# Altium integrated library National Semiconductor DAC.IntLib: 141 symbols (part 3 of 4)
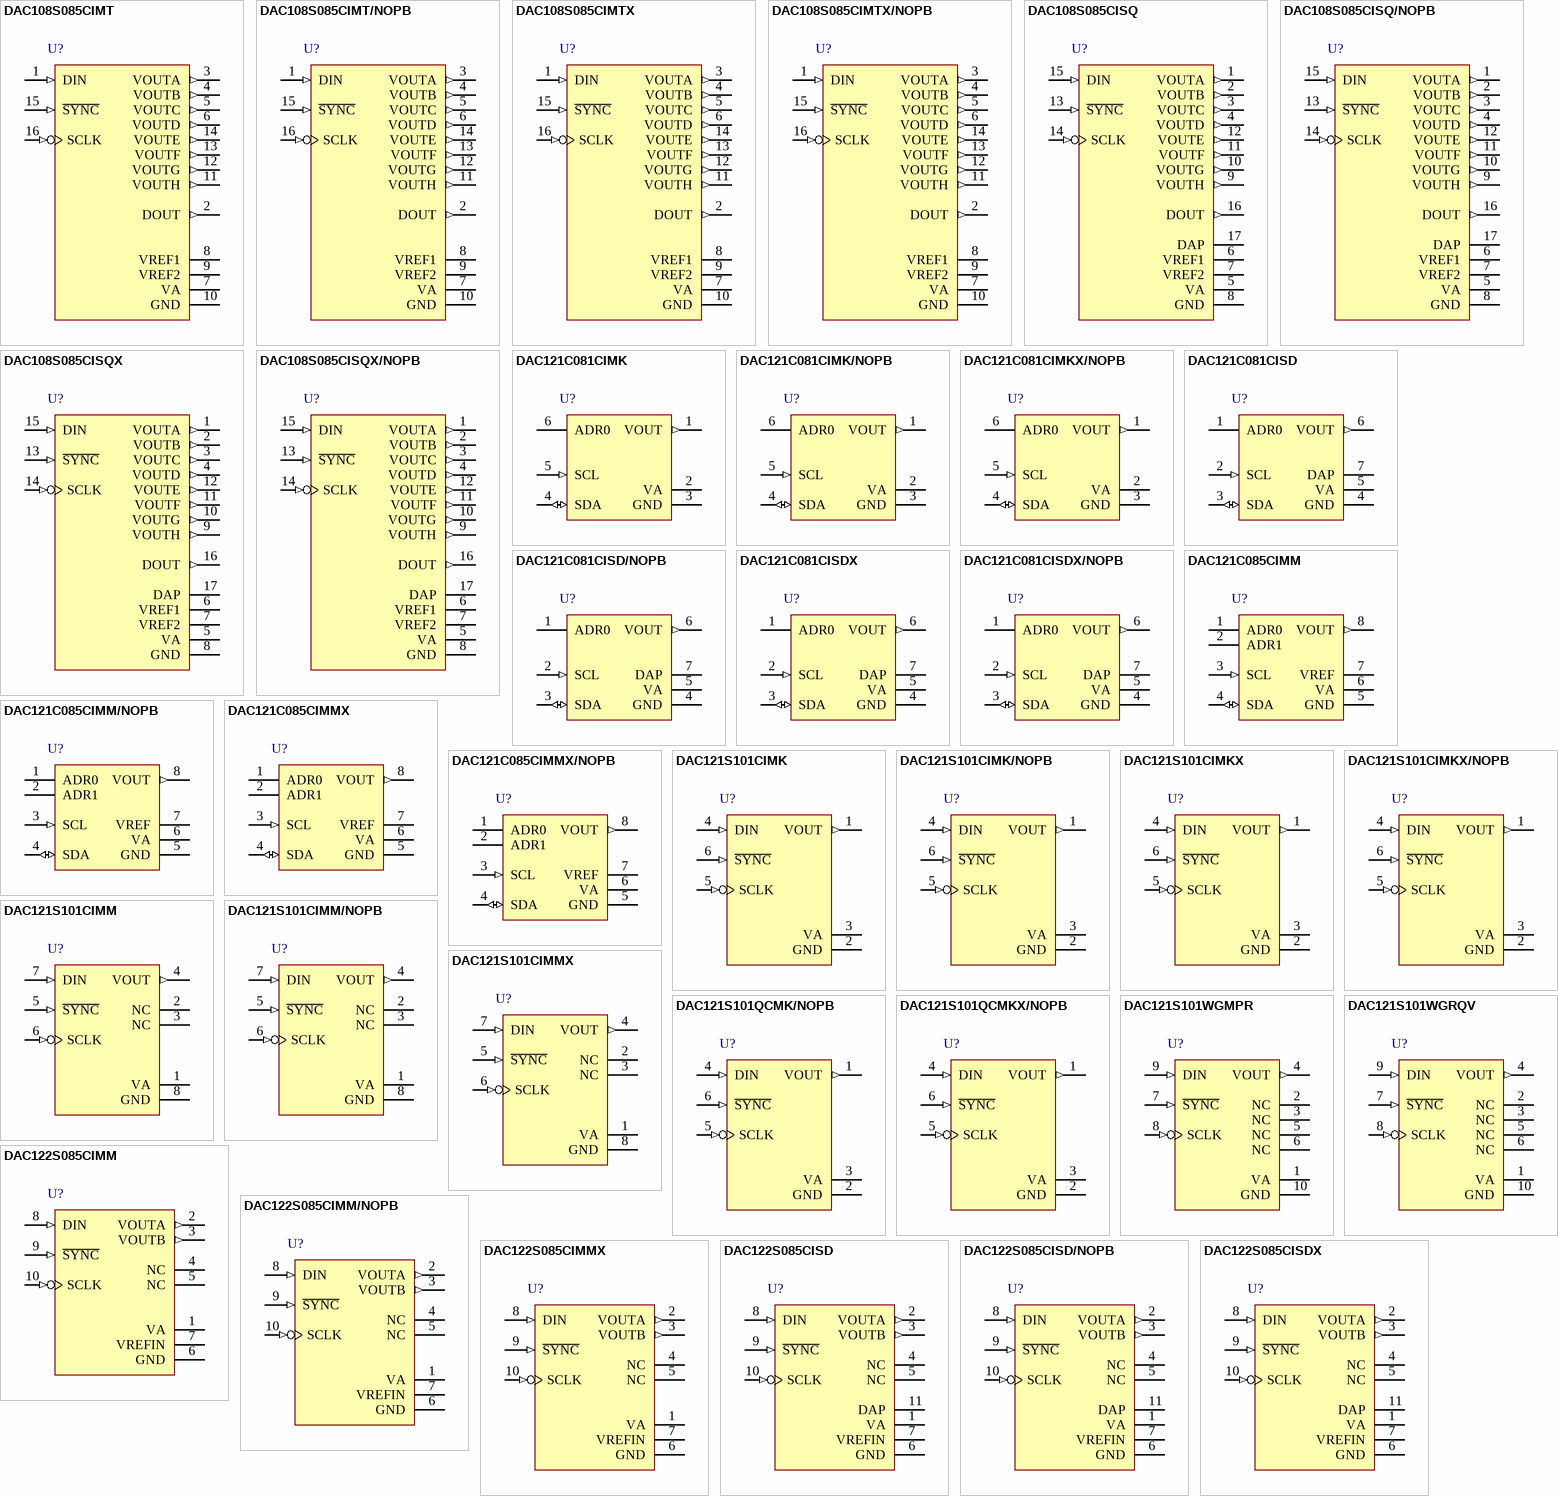
[diagram p6: symbols DAC108S085CIMT to DAC122S085CISDX]

## DAC108S085CIMT/NOPB
designator U?
10-Bit Micro Power OCTAL Digital-to-Analog Converter with Rail-to-Rail Outputs, 16-pin TSSOP, Pb-Free; PartNumber: DAC108S085CIMT/NOPB; Manufacturer: National Semiconductor; PackageTopMarking: ZXTT*X80C; PowerWise: Y; CompType: D/A Converter; DatasheetVersion: Oct-2007; PackageVersion: revD, Jun-2003; PackageReference: MTC16; PackageDescription: Molded TSSOP, Jedec, 5 x 4.4 x 0.9mm Body, 16 Lead, 0.65mm Pitch; RoHS: Y; PinCount: 16; High-Reliability: Y; Code_JEDEC: MO-153-AB; ComponentLink1Description: Manufacturer URL; ComponentLink1URL: http://www.national.com/; ComponentLink2Description: DAC108S085 Datasheet; ComponentLink2URL: http://www.national.com/ds/DA/DAC108S085.pdf; ComponentLink3Description: DAC108S085 Web Page; ComponentLink3URL: http://www.national.com/pf/DA/DAC108S085.html; ComponentLink4Description: MTC16 Package Page; ComponentLink4URL: http://www.national.com/packaging/folders/mtc16.html
footprint MTC16_N (TSOP, 16-Leads, Body 5x4.4mm, Pitch 0.65mm, IPC Medium Density)
footprint MTC16_L (TSOP, 16-Leads, Body 5x4.4mm, Pitch 0.65mm, IPC High Density)
footprint MTC16_M (TSOP, 16-Leads, Body 5x4.4mm, Pitch 0.65mm, IPC Low Density)
pins: 1 DIN (in), 2 DOUT (out), 3 VOUTA (out), 4 VOUTB (out), 5 VOUTC (out), 6 VOUTD (out), 7 VA (power), 8 VREF1 (power), 9 VREF2 (power), 10 GND (power), 11 VOUTH (out), 12 VOUTG (out), 13 VOUTF (out), 14 VOUTE (out), 15 ~{SYNC} (in), 16 SCLK (in)

## DAC108S085CIMTX
designator U?
10-Bit Micro Power OCTAL Digital-to-Analog Converter with Rail-to-Rail Outputs, 16-pin TSSOP; PartNumber: DAC108S085CIMTX; Manufacturer: National Semiconductor; PackageTopMarking: ZXTT*X80C; PowerWise: Y; CompType: D/A Converter; DatasheetVersion: Oct-2007; PackageVersion: revD, Jun-2003; PackageReference: MTC16; PackageDescription: Molded TSSOP, Jedec, 5 x 4.4 x 0.9mm Body, 16 Lead, 0.65mm Pitch; RoHS: N; PinCount: 16; High-Reliability: Y; Code_JEDEC: MO-153-AB; ComponentLink1Description: Manufacturer URL; ComponentLink1URL: http://www.national.com/; ComponentLink2Description: DAC108S085 Datasheet; ComponentLink2URL: http://www.national.com/ds/DA/DAC108S085.pdf; ComponentLink3Description: DAC108S085 Web Page; ComponentLink3URL: http://www.national.com/pf/DA/DAC108S085.html; ComponentLink4Description: MTC16 Package Page; ComponentLink4URL: http://www.national.com/packaging/folders/mtc16.html
footprint MTC16_N (TSOP, 16-Leads, Body 5x4.4mm, Pitch 0.65mm, IPC Medium Density)
footprint MTC16_L (TSOP, 16-Leads, Body 5x4.4mm, Pitch 0.65mm, IPC High Density)
footprint MTC16_M (TSOP, 16-Leads, Body 5x4.4mm, Pitch 0.65mm, IPC Low Density)
pins: 1 DIN (in), 2 DOUT (out), 3 VOUTA (out), 4 VOUTB (out), 5 VOUTC (out), 6 VOUTD (out), 7 VA (power), 8 VREF1 (power), 9 VREF2 (power), 10 GND (power), 11 VOUTH (out), 12 VOUTG (out), 13 VOUTF (out), 14 VOUTE (out), 15 ~{SYNC} (in), 16 SCLK (in)

## DAC108S085CIMTX/NOPB
designator U?
10-Bit Micro Power OCTAL Digital-to-Analog Converter with Rail-to-Rail Outputs, 16-pin TSSOP, Pb-Free; PartNumber: DAC108S085CIMTX/NOPB; Manufacturer: National Semiconductor; PackageTopMarking: ZXTT*X80C; PowerWise: Y; CompType: D/A Converter; DatasheetVersion: Oct-2007; PackageVersion: revD, Jun-2003; PackageReference: MTC16; PackageDescription: Molded TSSOP, Jedec, 5 x 4.4 x 0.9mm Body, 16 Lead, 0.65mm Pitch; RoHS: Y; PinCount: 16; High-Reliability: Y; Code_JEDEC: MO-153-AB; ComponentLink1Description: Manufacturer URL; ComponentLink1URL: http://www.national.com/; ComponentLink2Description: DAC108S085 Datasheet; ComponentLink2URL: http://www.national.com/ds/DA/DAC108S085.pdf; ComponentLink3Description: DAC108S085 Web Page; ComponentLink3URL: http://www.national.com/pf/DA/DAC108S085.html; ComponentLink4Description: MTC16 Package Page; ComponentLink4URL: http://www.national.com/packaging/folders/mtc16.html
footprint MTC16_N (TSOP, 16-Leads, Body 5x4.4mm, Pitch 0.65mm, IPC Medium Density)
footprint MTC16_L (TSOP, 16-Leads, Body 5x4.4mm, Pitch 0.65mm, IPC High Density)
footprint MTC16_M (TSOP, 16-Leads, Body 5x4.4mm, Pitch 0.65mm, IPC Low Density)
pins: 1 DIN (in), 2 DOUT (out), 3 VOUTA (out), 4 VOUTB (out), 5 VOUTC (out), 6 VOUTD (out), 7 VA (power), 8 VREF1 (power), 9 VREF2 (power), 10 GND (power), 11 VOUTH (out), 12 VOUTG (out), 13 VOUTF (out), 14 VOUTE (out), 15 ~{SYNC} (in), 16 SCLK (in)

## DAC108S085CISQ
designator U?
10-Bit Micro Power OCTAL Digital-to-Analog Converter with Rail-to-Rail Outputs, 17-pin LLP; PartNumber: DAC108S085CISQ; Manufacturer: National Semiconductor; PackageTopMarking: NS*UZXYTT*108S085; PowerWise: Y; CompType: D/A Converter; DatasheetVersion: Oct-2007; PackageVersion: revA, Oct-2003; PackageReference: SQA16A; PackageDescription: LLP, Plastic, Quad, 4 x 4 x 0.8mm Body, 16 Lead, 0.5mm Pitch, No Pullback; RoHS: N; PinCount: 17; High-Reliability: Y; ComponentLink1Description: Manufacturer URL; ComponentLink1URL: http://www.national.com/; ComponentLink2Description: DAC108S085 Datasheet; ComponentLink2URL: http://www.national.com/ds/DA/DAC108S085.pdf; ComponentLink3Description: DAC108S085 Web Page; ComponentLink3URL: http://www.national.com/pf/DA/DAC108S085.html; ComponentLink4Description: SQA16A Package Page; ComponentLink4URL: http://www.national.com/packaging/folders/sqa16a.html
footprint SQA16A (QFN, 16-Leads, Body 4x4mm, Pitch 0.5mm, Thermal Pad 2.7x2.7mm, NSC Recommended)
pins: 1 VOUTA (out), 2 VOUTB (out), 3 VOUTC (out), 4 VOUTD (out), 5 VA (power), 6 VREF1 (power), 7 VREF2 (power), 8 GND (power), 9 VOUTH (out), 10 VOUTG (out), 11 VOUTF (out), 12 VOUTE (out), 13 ~{SYNC} (in), 14 SCLK (in), 15 DIN (in), 16 DOUT (out), 17 DAP

## DAC108S085CISQ/NOPB
designator U?
10-Bit Micro Power OCTAL Digital-to-Analog Converter with Rail-to-Rail Outputs, 16-pin LLP, Pb-Free; PartNumber: DAC108S085CISQ/NOPB; Manufacturer: National Semiconductor; PackageTopMarking: NS*UZXYTT*108S085; PowerWise: Y; CompType: D/A Converter; DatasheetVersion: Oct-2007; PackageVersion: revA, Oct-2003; PackageReference: SQA16A; PackageDescription: LLP, Plastic, Quad, 4 x 4 x 0.8mm Body, 16 Lead, 0.5mm Pitch, No Pullback; RoHS: Y; PinCount: 16; High-Reliability: Y; ComponentLink1Description: Manufacturer URL; ComponentLink1URL: http://www.national.com/; ComponentLink2Description: DAC108S085 Datasheet; ComponentLink2URL: http://www.national.com/ds/DA/DAC108S085.pdf; ComponentLink3Description: DAC108S085 Web Page; ComponentLink3URL: http://www.national.com/pf/DA/DAC108S085.html; ComponentLink4Description: SQA16A Package Page; ComponentLink4URL: http://www.national.com/packaging/folders/sqa16a.html
footprint SQA16A (QFN, 16-Leads, Body 4x4mm, Pitch 0.5mm, Thermal Pad 2.7x2.7mm, NSC Recommended)
pins: 1 VOUTA (out), 2 VOUTB (out), 3 VOUTC (out), 4 VOUTD (out), 5 VA (power), 6 VREF1 (power), 7 VREF2 (power), 8 GND (power), 9 VOUTH (out), 10 VOUTG (out), 11 VOUTF (out), 12 VOUTE (out), 13 ~{SYNC} (in), 14 SCLK (in), 15 DIN (in), 16 DOUT (out), 17 DAP

## DAC108S085CISQX
designator U?
10-Bit Micro Power OCTAL Digital-to-Analog Converter with Rail-to-Rail Outputs, 16-pin LLP; PartNumber: DAC108S085CISQX; Manufacturer: National Semiconductor; PackageTopMarking: NS*UZXYTT*108S085; PowerWise: Y; CompType: D/A Converter; DatasheetVersion: Oct-2007; PackageVersion: revA, Oct-2003; PackageReference: SQA16A; PackageDescription: LLP, Plastic, Quad, 4 x 4 x 0.8mm Body, 16 Lead, 0.5mm Pitch, No Pullback; RoHS: N; PinCount: 16; High-Reliability: Y; ComponentLink1Description: Manufacturer URL; ComponentLink1URL: http://www.national.com/; ComponentLink2Description: DAC108S085 Datasheet; ComponentLink2URL: http://www.national.com/ds/DA/DAC108S085.pdf; ComponentLink3Description: DAC108S085 Web Page; ComponentLink3URL: http://www.national.com/pf/DA/DAC108S085.html; ComponentLink4Description: SQA16A Package Page; ComponentLink4URL: http://www.national.com/packaging/folders/sqa16a.html
footprint SQA16A (QFN, 16-Leads, Body 4x4mm, Pitch 0.5mm, Thermal Pad 2.7x2.7mm, NSC Recommended)
pins: 1 VOUTA (out), 2 VOUTB (out), 3 VOUTC (out), 4 VOUTD (out), 5 VA (power), 6 VREF1 (power), 7 VREF2 (power), 8 GND (power), 9 VOUTH (out), 10 VOUTG (out), 11 VOUTF (out), 12 VOUTE (out), 13 ~{SYNC} (in), 14 SCLK (in), 15 DIN (in), 16 DOUT (out), 17 DAP

## DAC108S085CISQX/NOPB
designator U?
10-Bit Micro Power OCTAL Digital-to-Analog Converter with Rail-to-Rail Outputs, 16-pin LLP, Pb-Free; PartNumber: DAC108S085CISQX/NOPB; Manufacturer: National Semiconductor; PackageTopMarking: NS*UZXYTT*108S085; PowerWise: Y; CompType: D/A Converter; DatasheetVersion: Oct-2007; PackageVersion: revA, Oct-2003; PackageReference: SQA16A; PackageDescription: LLP, Plastic, Quad, 4 x 4 x 0.8mm Body, 16 Lead, 0.5mm Pitch, No Pullback; RoHS: Y; PinCount: 16; High-Reliability: Y; ComponentLink1Description: Manufacturer URL; ComponentLink1URL: http://www.national.com/; ComponentLink2Description: DAC108S085 Datasheet; ComponentLink2URL: http://www.national.com/ds/DA/DAC108S085.pdf; ComponentLink3Description: DAC108S085 Web Page; ComponentLink3URL: http://www.national.com/pf/DA/DAC108S085.html; ComponentLink4Description: SQA16A Package Page; ComponentLink4URL: http://www.national.com/packaging/folders/sqa16a.html
footprint SQA16A (QFN, 16-Leads, Body 4x4mm, Pitch 0.5mm, Thermal Pad 2.7x2.7mm, NSC Recommended)
pins: 1 VOUTA (out), 2 VOUTB (out), 3 VOUTC (out), 4 VOUTD (out), 5 VA (power), 6 VREF1 (power), 7 VREF2 (power), 8 GND (power), 9 VOUTH (out), 10 VOUTG (out), 11 VOUTF (out), 12 VOUTE (out), 13 ~{SYNC} (in), 14 SCLK (in), 15 DIN (in), 16 DOUT (out), 17 DAP

## DAC121C081CIMK
designator U?
12-Bit Micro Power Digital-to-Analog Converter with an I2C-Compatible Interface, 6-pin Tiny SOT23; PartNumber: DAC121C081CIMK; Manufacturer: National Semiconductor; PackageTopMarking: X84C*XTT; PowerWise: Y; CompType: D/A Converter; DatasheetVersion: Mar-2008; PackageVersion: revE, Nov-2008; PackageReference: MK06A; PackageDescription: Molded TSOT, 2.97 x 1.65 x 0.87mm Body, 6 Lead, 0.95mm Pitch; RoHS: Y; PinCount: 6; High-Reliability: Y; Code_JEDEC: MO-193-AA; Code_IPC: SOT26A-6; ComponentLink1Description: Manufacturer URL; ComponentLink1URL: http://www.national.com/; ComponentLink2Description: DAC121C081 Datasheet; ComponentLink2URL: http://www.national.com/ds/DA/DAC121C081.pdf; ComponentLink3Description: DAC121C081 Web Page; ComponentLink3URL: http://www.national.com/pf/DA/DAC121C081.html; ComponentLink4Description: MK06A Package Page; ComponentLink4URL: http://www.national.com/packaging/folders/mk06a.html
footprint MK06A_N (SOT23, 6-Leads, Body 3.0x1.7mm, Pitch 0.95mm, Lead Span 2.9mm, IPC Medium Density)
footprint MK06A_L (SOT23, 6-Leads, Body 3.0x1.7mm, Pitch 0.95mm, Lead Span 2.9mm, IPC High Density)
footprint MK06A_M (SOT23, 6-Leads, Body 3.0x1.7mm, Pitch 0.95mm, Lead Span 2.9mm, IPC Low Density)
pins: 1 VOUT (out), 2 VA (power), 3 GND (power), 4 SDA (io), 5 SCL (in), 6 ADR0 (hiz)

## DAC121C081CIMK/NOPB
designator U?
12-Bit Micro Power Digital-to-Analog Converter with an I2C-Compatible Interface, 6-pin Tiny SOT23, Pb-Free; PartNumber: DAC121C081CIMK/NOPB; Manufacturer: National Semiconductor; PackageTopMarking: X84C*XTT; PowerWise: Y; CompType: D/A Converter; DatasheetVersion: Mar-2008; PackageVersion: revE, Nov-2008; PackageReference: MK06A; PackageDescription: Molded TSOT, 2.97 x 1.65 x 0.87mm Body, 6 Lead, 0.95mm Pitch; RoHS: Y; PinCount: 6; High-Reliability: Y; Code_JEDEC: MO-193-AA; Code_IPC: SOT26A-6; ComponentLink1Description: Manufacturer URL; ComponentLink1URL: http://www.national.com/; ComponentLink2Description: DAC121C081 Datasheet; ComponentLink2URL: http://www.national.com/ds/DA/DAC121C081.pdf; ComponentLink3Description: DAC121C081 Web Page; ComponentLink3URL: http://www.national.com/pf/DA/DAC121C081.html; ComponentLink4Description: MK06A Package Page; ComponentLink4URL: http://www.national.com/packaging/folders/mk06a.html
footprint MK06A_N (SOT23, 6-Leads, Body 3.0x1.7mm, Pitch 0.95mm, Lead Span 2.9mm, IPC Medium Density)
footprint MK06A_L (SOT23, 6-Leads, Body 3.0x1.7mm, Pitch 0.95mm, Lead Span 2.9mm, IPC High Density)
footprint MK06A_M (SOT23, 6-Leads, Body 3.0x1.7mm, Pitch 0.95mm, Lead Span 2.9mm, IPC Low Density)
pins: 1 VOUT (out), 2 VA (power), 3 GND (power), 4 SDA (io), 5 SCL (in), 6 ADR0 (hiz)

## DAC121C081CIMKX/NOPB
designator U?
12-Bit Micro Power Digital-to-Analog Converter with an I2C-Compatible Interface, 6-pin Tiny SOT23, Pb-Free; PartNumber: DAC121C081CIMKX/NOPB; Manufacturer: National Semiconductor; PackageTopMarking: X84C*XTT; PowerWise: Y; CompType: D/A Converter; DatasheetVersion: Mar-2008; PackageVersion: revE, Nov-2008; PackageReference: MK06A; PackageDescription: Molded TSOT, 2.97 x 1.65 x 0.87mm Body, 6 Lead, 0.95mm Pitch; RoHS: Y; PinCount: 6; High-Reliability: Y; Code_JEDEC: MO-193-AA; Code_IPC: SOT26A-6; ComponentLink1Description: Manufacturer URL; ComponentLink1URL: http://www.national.com/; ComponentLink2Description: DAC121C081 Datasheet; ComponentLink2URL: http://www.national.com/ds/DA/DAC121C081.pdf; ComponentLink3Description: DAC121C081 Web Page; ComponentLink3URL: http://www.national.com/pf/DA/DAC121C081.html; ComponentLink4Description: MK06A Package Page; ComponentLink4URL: http://www.national.com/packaging/folders/mk06a.html
footprint MK06A_N (SOT23, 6-Leads, Body 3.0x1.7mm, Pitch 0.95mm, Lead Span 2.9mm, IPC Medium Density)
footprint MK06A_L (SOT23, 6-Leads, Body 3.0x1.7mm, Pitch 0.95mm, Lead Span 2.9mm, IPC High Density)
footprint MK06A_M (SOT23, 6-Leads, Body 3.0x1.7mm, Pitch 0.95mm, Lead Span 2.9mm, IPC Low Density)
pins: 1 VOUT (out), 2 VA (power), 3 GND (power), 4 SDA (io), 5 SCL (in), 6 ADR0 (hiz)

## DAC121C081CISD
designator U?
12-Bit Micro Power Digital-to-Analog Converter with an I2C-Compatible Interface, 7-pin LLP; PartNumber: DAC121C081CISD; Manufacturer: National Semiconductor; PackageTopMarking: XTT*X87; PowerWise: Y; CompType: D/A Converter; DatasheetVersion: Mar-2008; PackageVersion: revA, Nov-2003; PackageReference: SDB06A; PackageDescription: LLP, Plastic, Dual, 2.2 x 2.5 x 0.8mm Body, 6 Lead, 0.65mm Pitch, No Pullback; RoHS: N; PinCount: 7; High-Reliability: Y; ComponentLink1Description: Manufacturer URL; ComponentLink1URL: http://www.national.com/; ComponentLink2Description: DAC121C081 Datasheet; ComponentLink2URL: http://www.national.com/ds/DA/DAC121C081.pdf; ComponentLink3Description: DAC121C081 Web Page; ComponentLink3URL: http://www.national.com/pf/DA/DAC121C081.html; ComponentLink4Description: SDB06A Package Page; ComponentLink4URL: http://www.national.com/packaging/folders/sdb06a.html
footprint SDB06A (SON, 6-Leads, Body 2.2x2.5mm, Pitch 0.65mm, NSC Recommended (SC-70 Land))
pins: 1 ADR0 (hiz), 2 SCL (in), 3 SDA (io), 4 GND (power), 5 VA (power), 6 VOUT (out), 7 DAP (power)

## DAC121C081CISD/NOPB
designator U?
12-Bit Micro Power Digital-to-Analog Converter with an I2C-Compatible Interface, 6-pin LLP, Pb-Free; PartNumber: DAC121C081CISD/NOPB; Manufacturer: National Semiconductor; PackageTopMarking: XTT*X87; PowerWise: Y; CompType: D/A Converter; DatasheetVersion: Mar-2008; PackageVersion: revA, Nov-2003; PackageReference: SDB06A; PackageDescription: LLP, Plastic, Dual, 2.2 x 2.5 x 0.8mm Body, 6 Lead, 0.65mm Pitch, No Pullback; RoHS: Y; PinCount: 6; High-Reliability: Y; ComponentLink1Description: Manufacturer URL; ComponentLink1URL: http://www.national.com/; ComponentLink2Description: DAC121C081 Datasheet; ComponentLink2URL: http://www.national.com/ds/DA/DAC121C081.pdf; ComponentLink3Description: DAC121C081 Web Page; ComponentLink3URL: http://www.national.com/pf/DA/DAC121C081.html; ComponentLink4Description: SDB06A Package Page; ComponentLink4URL: http://www.national.com/packaging/folders/sdb06a.html
footprint SDB06A (SON, 6-Leads, Body 2.2x2.5mm, Pitch 0.65mm, NSC Recommended (SC-70 Land))
pins: 1 ADR0 (hiz), 2 SCL (in), 3 SDA (io), 4 GND (power), 5 VA (power), 6 VOUT (out), 7 DAP (power)

## DAC121C081CISDX
designator U?
12-Bit Micro Power Digital-to-Analog Converter with an I2C-Compatible Interface, 6-pin LLP; PartNumber: DAC121C081CISDX; Manufacturer: National Semiconductor; PackageTopMarking: XTT*X87; PowerWise: Y; CompType: D/A Converter; DatasheetVersion: Mar-2008; PackageVersion: revA, Nov-2003; PackageReference: SDB06A; PackageDescription: LLP, Plastic, Dual, 2.2 x 2.5 x 0.8mm Body, 6 Lead, 0.65mm Pitch, No Pullback; RoHS: N; PinCount: 6; High-Reliability: Y; ComponentLink1Description: Manufacturer URL; ComponentLink1URL: http://www.national.com/; ComponentLink2Description: DAC121C081 Datasheet; ComponentLink2URL: http://www.national.com/ds/DA/DAC121C081.pdf; ComponentLink3Description: DAC121C081 Web Page; ComponentLink3URL: http://www.national.com/pf/DA/DAC121C081.html; ComponentLink4Description: SDB06A Package Page; ComponentLink4URL: http://www.national.com/packaging/folders/sdb06a.html
footprint SDB06A (SON, 6-Leads, Body 2.2x2.5mm, Pitch 0.65mm, NSC Recommended (SC-70 Land))
pins: 1 ADR0 (hiz), 2 SCL (in), 3 SDA (io), 4 GND (power), 5 VA (power), 6 VOUT (out), 7 DAP (power)

## DAC121C081CISDX/NOPB
designator U?
12-Bit Micro Power Digital-to-Analog Converter with an I2C-Compatible Interface, 6-pin LLP, Pb-Free; PartNumber: DAC121C081CISDX/NOPB; Manufacturer: National Semiconductor; PackageTopMarking: XTT*X87; PowerWise: Y; CompType: D/A Converter; DatasheetVersion: Mar-2008; PackageVersion: revA, Nov-2003; PackageReference: SDB06A; PackageDescription: LLP, Plastic, Dual, 2.2 x 2.5 x 0.8mm Body, 6 Lead, 0.65mm Pitch, No Pullback; RoHS: Y; PinCount: 6; High-Reliability: Y; ComponentLink1Description: Manufacturer URL; ComponentLink1URL: http://www.national.com/; ComponentLink2Description: DAC121C081 Datasheet; ComponentLink2URL: http://www.national.com/ds/DA/DAC121C081.pdf; ComponentLink3Description: DAC121C081 Web Page; ComponentLink3URL: http://www.national.com/pf/DA/DAC121C081.html; ComponentLink4Description: SDB06A Package Page; ComponentLink4URL: http://www.national.com/packaging/folders/sdb06a.html
footprint SDB06A (SON, 6-Leads, Body 2.2x2.5mm, Pitch 0.65mm, NSC Recommended (SC-70 Land))
pins: 1 ADR0 (hiz), 2 SCL (in), 3 SDA (io), 4 GND (power), 5 VA (power), 6 VOUT (out), 7 DAP (power)

## DAC121C085CIMM
designator U?
12-Bit Micro Power Digital-to-Analog Converter with an I2C-Compatible Interface and External Reference, 8-pin Mini SOIC; PartNumber: DAC121C085CIMM; Manufacturer: National Semiconductor; PackageTopMarking: XTT*X90C; PowerWise: Y; CompType: D/A Converter; DatasheetVersion: Mar-2008; PackageVersion: revF, Apr-2008; PackageReference: MUA08A; PackageDescription: MINI SOIC, .118 x .118 x .034in, 8 Lead, .0256in Pitch; RoHS: N; PinCount: 8; High-Reliability: Y; Code_JEDEC: MO-187-AA; ComponentLink1Description: Manufacturer URL; ComponentLink1URL: http://www.national.com/; ComponentLink2Description: DAC121C085 Datasheet; ComponentLink2URL: http://www.national.com/ds/DA/DAC121C085.pdf; ComponentLink3Description: DAC121C085 Web Page; ComponentLink3URL: http://www.national.com/pf/DA/DAC121C085.html; ComponentLink4Description: MUA08A Package Page; ComponentLink4URL: http://www.national.com/packaging/folders/mua08a.html
footprint MUA08A_N (TSOP, 8-Leads, Body 3x3mm, Pitch 0.65mm, IPC Medium Density)
footprint MUA08A_L (TSOP, 8-Leads, Body 3x3mm, Pitch 0.65mm, IPC High Density)
footprint MUA08A_M (TSOP, 8-Leads, Body 3x3mm, Pitch 0.65mm, IPC Low Density)
pins: 1 ADR0 (hiz), 2 ADR1 (hiz), 3 SCL (in), 4 SDA (io), 5 GND (power), 6 VA (power), 7 VREF (power), 8 VOUT (out)

## DAC121C085CIMM/NOPB
designator U?
12-Bit Micro Power Digital-to-Analog Converter with an I2C-Compatible Interface and External Reference, 8-pin Mini SOIC, Pb-Free; PartNumber: DAC121C085CIMM/NOPB; Manufacturer: National Semiconductor; PackageTopMarking: XTT*X90C; PowerWise: Y; CompType: D/A Converter; DatasheetVersion: Mar-2008; PackageVersion: revF, Apr-2008; PackageReference: MUA08A; PackageDescription: MINI SOIC, .118 x .118 x .034in, 8 Lead, .0256in Pitch; RoHS: Y; PinCount: 8; High-Reliability: Y; Code_JEDEC: MO-187-AA; ComponentLink1Description: Manufacturer URL; ComponentLink1URL: http://www.national.com/; ComponentLink2Description: DAC121C085 Datasheet; ComponentLink2URL: http://www.national.com/ds/DA/DAC121C085.pdf; ComponentLink3Description: DAC121C085 Web Page; ComponentLink3URL: http://www.national.com/pf/DA/DAC121C085.html; ComponentLink4Description: MUA08A Package Page; ComponentLink4URL: http://www.national.com/packaging/folders/mua08a.html
footprint MUA08A_N (TSOP, 8-Leads, Body 3x3mm, Pitch 0.65mm, IPC Medium Density)
footprint MUA08A_L (TSOP, 8-Leads, Body 3x3mm, Pitch 0.65mm, IPC High Density)
footprint MUA08A_M (TSOP, 8-Leads, Body 3x3mm, Pitch 0.65mm, IPC Low Density)
pins: 1 ADR0 (hiz), 2 ADR1 (hiz), 3 SCL (in), 4 SDA (io), 5 GND (power), 6 VA (power), 7 VREF (power), 8 VOUT (out)

## DAC121C085CIMMX
designator U?
12-Bit Micro Power Digital-to-Analog Converter with an I2C-Compatible Interface and External Reference, 8-pin Mini SOIC; PartNumber: DAC121C085CIMMX; Manufacturer: National Semiconductor; PackageTopMarking: XTT*X90C; PowerWise: Y; CompType: D/A Converter; DatasheetVersion: Mar-2008; PackageVersion: revF, Apr-2008; PackageReference: MUA08A; PackageDescription: MINI SOIC, .118 x .118 x .034in, 8 Lead, .0256in Pitch; RoHS: N; PinCount: 8; High-Reliability: Y; Code_JEDEC: MO-187-AA; ComponentLink1Description: Manufacturer URL; ComponentLink1URL: http://www.national.com/; ComponentLink2Description: DAC121C085 Datasheet; ComponentLink2URL: http://www.national.com/ds/DA/DAC121C085.pdf; ComponentLink3Description: DAC121C085 Web Page; ComponentLink3URL: http://www.national.com/pf/DA/DAC121C085.html; ComponentLink4Description: MUA08A Package Page; ComponentLink4URL: http://www.national.com/packaging/folders/mua08a.html
footprint MUA08A_N (TSOP, 8-Leads, Body 3x3mm, Pitch 0.65mm, IPC Medium Density)
footprint MUA08A_L (TSOP, 8-Leads, Body 3x3mm, Pitch 0.65mm, IPC High Density)
footprint MUA08A_M (TSOP, 8-Leads, Body 3x3mm, Pitch 0.65mm, IPC Low Density)
pins: 1 ADR0 (hiz), 2 ADR1 (hiz), 3 SCL (in), 4 SDA (io), 5 GND (power), 6 VA (power), 7 VREF (power), 8 VOUT (out)

## DAC121C085CIMMX/NOPB
designator U?
12-Bit Micro Power Digital-to-Analog Converter with an I2C-Compatible Interface and External Reference, 8-pin Mini SOIC, Pb-Free; PartNumber: DAC121C085CIMMX/NOPB; Manufacturer: National Semiconductor; PackageTopMarking: XTT*X90C; PowerWise: Y; CompType: D/A Converter; DatasheetVersion: Mar-2008; PackageVersion: revF, Apr-2008; PackageReference: MUA08A; PackageDescription: MINI SOIC, .118 x .118 x .034in, 8 Lead, .0256in Pitch; RoHS: Y; PinCount: 8; High-Reliability: Y; Code_JEDEC: MO-187-AA; ComponentLink1Description: Manufacturer URL; ComponentLink1URL: http://www.national.com/; ComponentLink2Description: DAC121C085 Datasheet; ComponentLink2URL: http://www.national.com/ds/DA/DAC121C085.pdf; ComponentLink3Description: DAC121C085 Web Page; ComponentLink3URL: http://www.national.com/pf/DA/DAC121C085.html; ComponentLink4Description: MUA08A Package Page; ComponentLink4URL: http://www.national.com/packaging/folders/mua08a.html
footprint MUA08A_N (TSOP, 8-Leads, Body 3x3mm, Pitch 0.65mm, IPC Medium Density)
footprint MUA08A_L (TSOP, 8-Leads, Body 3x3mm, Pitch 0.65mm, IPC High Density)
footprint MUA08A_M (TSOP, 8-Leads, Body 3x3mm, Pitch 0.65mm, IPC Low Density)
pins: 1 ADR0 (hiz), 2 ADR1 (hiz), 3 SCL (in), 4 SDA (io), 5 GND (power), 6 VA (power), 7 VREF (power), 8 VOUT (out)

## DAC121S101CIMK
designator U?
12-Bit Micro Power Digital-to-Analog Converter with Rail-to-Rail Output, 6-pin Tiny SOT23; PartNumber: DAC121S101CIMK; Manufacturer: National Semiconductor; PackageTopMarking: X61C*XTT; PowerWise: Y; CompType: D/A Converter; DatasheetVersion: Feb-2010; PackageVersion: revE, Nov-2008; PackageReference: MK06A; PackageDescription: Molded TSOT, 2.97 x 1.65 x 0.87mm Body, 6 Lead, 0.95mm Pitch; RoHS: N; PinCount: 6; High-Reliability: Y; Code_JEDEC: MO-193-AA; Code_IPC: SOT26A-6; ComponentLink1Description: Manufacturer URL; ComponentLink1URL: http://www.national.com/; ComponentLink2Description: DAC121S101 Datasheet; ComponentLink2URL: http://www.national.com/ds/DA/DAC121S101.pdf; ComponentLink3Description: DAC121S101 Web Page; ComponentLink3URL: http://www.national.com/pf/DA/DAC121S101.html; ComponentLink4Description: MK06A Package Page; ComponentLink4URL: http://www.national.com/packaging/folders/mk06a.html
footprint MK06A_N (SOT23, 6-Leads, Body 3.0x1.7mm, Pitch 0.95mm, Lead Span 2.9mm, IPC Medium Density)
footprint MK06A_L (SOT23, 6-Leads, Body 3.0x1.7mm, Pitch 0.95mm, Lead Span 2.9mm, IPC High Density)
footprint MK06A_M (SOT23, 6-Leads, Body 3.0x1.7mm, Pitch 0.95mm, Lead Span 2.9mm, IPC Low Density)
pins: 1 VOUT (out), 2 GND (power), 3 VA (power), 4 DIN (in), 5 SCLK (in), 6 ~{SYNC} (in)

## DAC121S101CIMK/NOPB
designator U?
12-Bit Micro Power, RRO Digital-to-Analog Converter, 6-pin Tiny SOT23, Pb-Free; PartNumber: DAC121S101CIMK/NOPB; Manufacturer: National Semiconductor; PackageTopMarking: X61C*XTT; PowerWise: Y; CompType: D/A Converter; DatasheetVersion: Feb-2010; PackageVersion: revE, Nov-2008; PackageReference: MK06A; PackageDescription: Molded TSOT, 2.97 x 1.65 x 0.87mm Body, 6 Lead, 0.95mm Pitch; RoHS: Y; PinCount: 6; High-Reliability: Y; Code_JEDEC: MO-193-AA; Code_IPC: SOT26A-6; ComponentLink1Description: Manufacturer URL; ComponentLink1URL: http://www.national.com/; ComponentLink2Description: DAC121S101 Datasheet; ComponentLink2URL: http://www.national.com/ds/DA/DAC121S101.pdf; ComponentLink3Description: DAC121S101 Web Page; ComponentLink3URL: http://www.national.com/pf/DA/DAC121S101.html; ComponentLink4Description: MK06A Package Page; ComponentLink4URL: http://www.national.com/packaging/folders/mk06a.html
footprint MK06A_N (SOT23, 6-Leads, Body 3.0x1.7mm, Pitch 0.95mm, Lead Span 2.9mm, IPC Medium Density)
footprint MK06A_L (SOT23, 6-Leads, Body 3.0x1.7mm, Pitch 0.95mm, Lead Span 2.9mm, IPC High Density)
footprint MK06A_M (SOT23, 6-Leads, Body 3.0x1.7mm, Pitch 0.95mm, Lead Span 2.9mm, IPC Low Density)
pins: 1 VOUT (out), 2 GND (power), 3 VA (power), 4 DIN (in), 5 SCLK (in), 6 ~{SYNC} (in)

## DAC121S101CIMKX
designator U?
12-Bit Micro Power, RRO Digital-to-Analog Converter, 6-pin Tiny SOT23; PartNumber: DAC121S101CIMKX; Manufacturer: National Semiconductor; PackageTopMarking: X61C*XTT; PowerWise: Y; CompType: D/A Converter; DatasheetVersion: Feb-2010; PackageVersion: revE, Nov-2008; PackageReference: MK06A; PackageDescription: Molded TSOT, 2.97 x 1.65 x 0.87mm Body, 6 Lead, 0.95mm Pitch; RoHS: N; PinCount: 6; High-Reliability: Y; Code_JEDEC: MO-193-AA; Code_IPC: SOT26A-6; ComponentLink1Description: Manufacturer URL; ComponentLink1URL: http://www.national.com/; ComponentLink2Description: DAC121S101 Datasheet; ComponentLink2URL: http://www.national.com/ds/DA/DAC121S101.pdf; ComponentLink3Description: DAC121S101 Web Page; ComponentLink3URL: http://www.national.com/pf/DA/DAC121S101.html; ComponentLink4Description: MK06A Package Page; ComponentLink4URL: http://www.national.com/packaging/folders/mk06a.html
footprint MK06A_N (SOT23, 6-Leads, Body 3.0x1.7mm, Pitch 0.95mm, Lead Span 2.9mm, IPC Medium Density)
footprint MK06A_L (SOT23, 6-Leads, Body 3.0x1.7mm, Pitch 0.95mm, Lead Span 2.9mm, IPC High Density)
footprint MK06A_M (SOT23, 6-Leads, Body 3.0x1.7mm, Pitch 0.95mm, Lead Span 2.9mm, IPC Low Density)
pins: 1 VOUT (out), 2 GND (power), 3 VA (power), 4 DIN (in), 5 SCLK (in), 6 ~{SYNC} (in)

## DAC121S101CIMKX/NOPB
designator U?
12-Bit Micro Power, RRO Digital-to-Analog Converter, 6-pin Tiny SOT23, Pb-Free; PartNumber: DAC121S101CIMKX/NOPB; Manufacturer: National Semiconductor; PackageTopMarking: X61C*XTT; PowerWise: Y; CompType: D/A Converter; DatasheetVersion: Feb-2010; PackageVersion: revE, Nov-2008; PackageReference: MK06A; PackageDescription: Molded TSOT, 2.97 x 1.65 x 0.87mm Body, 6 Lead, 0.95mm Pitch; RoHS: Y; PinCount: 6; High-Reliability: Y; Code_JEDEC: MO-193-AA; Code_IPC: SOT26A-6; ComponentLink1Description: Manufacturer URL; ComponentLink1URL: http://www.national.com/; ComponentLink2Description: DAC121S101 Datasheet; ComponentLink2URL: http://www.national.com/ds/DA/DAC121S101.pdf; ComponentLink3Description: DAC121S101 Web Page; ComponentLink3URL: http://www.national.com/pf/DA/DAC121S101.html; ComponentLink4Description: MK06A Package Page; ComponentLink4URL: http://www.national.com/packaging/folders/mk06a.html
footprint MK06A_N (SOT23, 6-Leads, Body 3.0x1.7mm, Pitch 0.95mm, Lead Span 2.9mm, IPC Medium Density)
footprint MK06A_L (SOT23, 6-Leads, Body 3.0x1.7mm, Pitch 0.95mm, Lead Span 2.9mm, IPC High Density)
footprint MK06A_M (SOT23, 6-Leads, Body 3.0x1.7mm, Pitch 0.95mm, Lead Span 2.9mm, IPC Low Density)
pins: 1 VOUT (out), 2 GND (power), 3 VA (power), 4 DIN (in), 5 SCLK (in), 6 ~{SYNC} (in)

## DAC121S101CIMM
designator U?
12-Bit Micro Power Digital-to-Analog Converter with Rail-to-Rail Output, 8-pin Mini SOIC; PartNumber: DAC121S101CIMM; Manufacturer: National Semiconductor; PackageTopMarking: ZXTT*X60C; PowerWise: Y; CompType: D/A Converter; DatasheetVersion: Feb-2010; PackageVersion: revF, Apr-2008; PackageReference: MUA08A; PackageDescription: MINI SOIC, .118 x .118 x .034in, 8 Lead, .0256in Pitch; RoHS: N; PinCount: 8; High-Reliability: Y; Code_JEDEC: MO-187-AA; ComponentLink1Description: Manufacturer URL; ComponentLink1URL: http://www.national.com/; ComponentLink2Description: DAC121S101 Datasheet; ComponentLink2URL: http://www.national.com/ds/DA/DAC121S101.pdf; ComponentLink3Description: DAC121S101 Web Page; ComponentLink3URL: http://www.national.com/pf/DA/DAC121S101.html; ComponentLink4Description: MUA08A Package Page; ComponentLink4URL: http://www.national.com/packaging/folders/mua08a.html
footprint MUA08A_N (TSOP, 8-Leads, Body 3x3mm, Pitch 0.65mm, IPC Medium Density)
footprint MUA08A_L (TSOP, 8-Leads, Body 3x3mm, Pitch 0.65mm, IPC High Density)
footprint MUA08A_M (TSOP, 8-Leads, Body 3x3mm, Pitch 0.65mm, IPC Low Density)
pins: 1 VA (power), 2 NC, 3 NC, 4 VOUT (out), 5 ~{SYNC} (in), 6 SCLK (in), 7 DIN (in), 8 GND (power)

## DAC121S101CIMM/NOPB
designator U?
12-Bit Micro Power, RRO Digital-to-Analog Converter, 8-pin Mini SOIC, Pb-Free; PartNumber: DAC121S101CIMM/NOPB; Manufacturer: National Semiconductor; PackageTopMarking: ZXTT*X60C; PowerWise: Y; CompType: D/A Converter; DatasheetVersion: Feb-2010; PackageVersion: revF, Apr-2008; PackageReference: MUA08A; PackageDescription: MINI SOIC, .118 x .118 x .034in, 8 Lead, .0256in Pitch; RoHS: Y; PinCount: 8; High-Reliability: Y; Code_JEDEC: MO-187-AA; ComponentLink1Description: Manufacturer URL; ComponentLink1URL: http://www.national.com/; ComponentLink2Description: DAC121S101 Datasheet; ComponentLink2URL: http://www.national.com/ds/DA/DAC121S101.pdf; ComponentLink3Description: DAC121S101 Web Page; ComponentLink3URL: http://www.national.com/pf/DA/DAC121S101.html; ComponentLink4Description: MUA08A Package Page; ComponentLink4URL: http://www.national.com/packaging/folders/mua08a.html
footprint MUA08A_N (TSOP, 8-Leads, Body 3x3mm, Pitch 0.65mm, IPC Medium Density)
footprint MUA08A_L (TSOP, 8-Leads, Body 3x3mm, Pitch 0.65mm, IPC High Density)
footprint MUA08A_M (TSOP, 8-Leads, Body 3x3mm, Pitch 0.65mm, IPC Low Density)
pins: 1 VA (power), 2 NC, 3 NC, 4 VOUT (out), 5 ~{SYNC} (in), 6 SCLK (in), 7 DIN (in), 8 GND (power)

## DAC121S101CIMMX
designator U?
12-Bit Micro Power, RRO Digital-to-Analog Converter, 8-pin Mini SOIC; PartNumber: DAC121S101CIMMX; Manufacturer: National Semiconductor; PackageTopMarking: ZXTT*X60C; PowerWise: Y; CompType: D/A Converter; DatasheetVersion: Feb-2010; PackageVersion: revF, Apr-2008; PackageReference: MUA08A; PackageDescription: MINI SOIC, .118 x .118 x .034in, 8 Lead, .0256in Pitch; RoHS: N; PinCount: 8; High-Reliability: Y; Code_JEDEC: MO-187-AA; ComponentLink1Description: Manufacturer URL; ComponentLink1URL: http://www.national.com/; ComponentLink2Description: DAC121S101 Datasheet; ComponentLink2URL: http://www.national.com/ds/DA/DAC121S101.pdf; ComponentLink3Description: DAC121S101 Web Page; ComponentLink3URL: http://www.national.com/pf/DA/DAC121S101.html; ComponentLink4Description: MUA08A Package Page; ComponentLink4URL: http://www.national.com/packaging/folders/mua08a.html
footprint MUA08A_N (TSOP, 8-Leads, Body 3x3mm, Pitch 0.65mm, IPC Medium Density)
footprint MUA08A_L (TSOP, 8-Leads, Body 3x3mm, Pitch 0.65mm, IPC High Density)
footprint MUA08A_M (TSOP, 8-Leads, Body 3x3mm, Pitch 0.65mm, IPC Low Density)
pins: 1 VA (power), 2 NC, 3 NC, 4 VOUT (out), 5 ~{SYNC} (in), 6 SCLK (in), 7 DIN (in), 8 GND (power)

## DAC121S101QCMK/NOPB
designator U?
12-Bit Micro Power, RRO Digital-to-Analog Converter, 6-pin Tiny SOT23, Pb-Free; PartNumber: DAC121S101QCMK/NOPB; Manufacturer: National Semiconductor; PackageTopMarking: X61Q*XTT; PowerWise: Y; CompType: D/A Converter; DatasheetVersion: Feb-2010; PackageVersion: revE, Nov-2008; PackageReference: MK06A; PackageDescription: Molded TSOT, 2.97 x 1.65 x 0.87mm Body, 6 Lead, 0.95mm Pitch; RoHS: Y; PinCount: 6; High-Reliability: Y; Code_JEDEC: MO-193-AA; Code_IPC: SOT26A-6; ComponentLink1Description: Manufacturer URL; ComponentLink1URL: http://www.national.com/; ComponentLink2Description: DAC121S101 Datasheet; ComponentLink2URL: http://www.national.com/ds/DA/DAC121S101.pdf; ComponentLink3Description: DAC121S101 Web Page; ComponentLink3URL: http://www.national.com/pf/DA/DAC121S101.html; ComponentLink4Description: MK06A Package Page; ComponentLink4URL: http://www.national.com/packaging/folders/mk06a.html
footprint MK06A_N (SOT23, 6-Leads, Body 3.0x1.7mm, Pitch 0.95mm, Lead Span 2.9mm, IPC Medium Density)
footprint MK06A_L (SOT23, 6-Leads, Body 3.0x1.7mm, Pitch 0.95mm, Lead Span 2.9mm, IPC High Density)
footprint MK06A_M (SOT23, 6-Leads, Body 3.0x1.7mm, Pitch 0.95mm, Lead Span 2.9mm, IPC Low Density)
pins: 1 VOUT (out), 2 GND (power), 3 VA (power), 4 DIN (in), 5 SCLK (in), 6 ~{SYNC} (in)

## DAC121S101QCMKX/NOPB
designator U?
12-Bit Micro Power, RRO Digital-to-Analog Converter, 6-pin Tiny SOT23, Pb-Free; PartNumber: DAC121S101QCMKX/NOPB; Manufacturer: National Semiconductor; PackageTopMarking: X61Q*XTT; PowerWise: Y; CompType: D/A Converter; DatasheetVersion: Feb-2010; PackageVersion: revE, Nov-2008; PackageReference: MK06A; PackageDescription: Molded TSOT, 2.97 x 1.65 x 0.87mm Body, 6 Lead, 0.95mm Pitch; RoHS: Y; PinCount: 6; High-Reliability: Y; Code_JEDEC: MO-193-AA; Code_IPC: SOT26A-6; ComponentLink1Description: Manufacturer URL; ComponentLink1URL: http://www.national.com/; ComponentLink2Description: DAC121S101 Datasheet; ComponentLink2URL: http://www.national.com/ds/DA/DAC121S101.pdf; ComponentLink3Description: DAC121S101 Web Page; ComponentLink3URL: http://www.national.com/pf/DA/DAC121S101.html; ComponentLink4Description: MK06A Package Page; ComponentLink4URL: http://www.national.com/packaging/folders/mk06a.html
footprint MK06A_N (SOT23, 6-Leads, Body 3.0x1.7mm, Pitch 0.95mm, Lead Span 2.9mm, IPC Medium Density)
footprint MK06A_L (SOT23, 6-Leads, Body 3.0x1.7mm, Pitch 0.95mm, Lead Span 2.9mm, IPC High Density)
footprint MK06A_M (SOT23, 6-Leads, Body 3.0x1.7mm, Pitch 0.95mm, Lead Span 2.9mm, IPC Low Density)
pins: 1 VOUT (out), 2 GND (power), 3 VA (power), 4 DIN (in), 5 SCLK (in), 6 ~{SYNC} (in)

## DAC121S101WGMPR
designator U?
12-Bit Micro Power Digital-to-Analog Converter with Rail-to-Rail Output, 10 pin CERPACK; PartNumber: DAC121S101WGMPR; Manufacturer: National Semiconductor; PackageTopMarking: NS*ZSSXXYYA*DAC121S101*WGMPR ES; PowerWise: N; CompType: D/A Converter; High-Reliability: Y; DatasheetVersion: May-2010; PackageVersion: revF, Oct-2008; PackageReference: WG10A; PackageDescription: Cerpack, .270 x .241 x .070in, 10 Lead, .050in Pitch, Gull Wing; RoHS: N; PinCount: 10; ComponentLink1Description: Manufacturer URL; ComponentLink1URL: http://www.national.com/; ComponentLink2Description: DAC121S101 Datasheet; ComponentLink2URL: http://www.national.com/ds/DA/DAC121S101QML.pdf; ComponentLink3Description: DAC121S101 Web Page; ComponentLink3URL: http://www.national.com/pf/DA/DAC121S101.html; ComponentLink4Description: WG10A Package Page; ComponentLink4URL: http://www.national.com/packaging/folders/wg10a.html
footprint WG10A_N (CERPACK, 10-Leads, Body 6.9x6.3mm, Pitch 1.27mm, IPC Medium Density)
footprint WG10A_L (CERPACK, 10-Leads, Body 6.9x6.3mm, Pitch 1.27mm, IPC High Density)
footprint WG10A_M (CERPACK, 10-Leads, Body 6.9x6.3mm, Pitch 1.27mm, IPC Low Density)
pins: 1 VA (power), 2 NC, 3 NC, 4 VOUT (out), 5 NC, 6 NC, 7 ~{SYNC} (in), 8 SCLK (in), 9 DIN (in), 10 GND (power)

## DAC121S101WGRQV
designator U?
12-Bit Micro Power Digital-to-Analog Converter with Rail-to-Rail Output, 10-pin CerPACK; PartNumber: DAC121S101WGRQV; Manufacturer: National Semiconductor; PackageTopMarking: NSZSSXXYYA*DAC121S101*WGRQV Q*5962R07226*01VZA; PowerWise: Y; CompType: D/A Converter; DatasheetVersion: May-2010; PackageVersion: revF, Oct-2008; PackageReference: WG10A; PackageDescription: Cerpack, .270 x .241 x .070in, 10 Lead, .050in Pitch, Gull Wing; RoHS: N; PinCount: 10; High-Reliability: Y; ComponentLink1Description: Manufacturer URL; ComponentLink1URL: http://www.national.com/; ComponentLink2Description: DAC121S101 Datasheet; ComponentLink2URL: http://www.national.com/ds/DA/DAC121S101QML.pdf; ComponentLink3Description: DAC121S101 Web Page; ComponentLink3URL: http://www.national.com/pf/DA/DAC121S101.html; ComponentLink4Description: WG10A Package Page; ComponentLink4URL: http://www.national.com/packaging/folders/wg10a.html
footprint WG10A_N (CERPACK, 10-Leads, Body 6.9x6.3mm, Pitch 1.27mm, IPC Medium Density)
footprint WG10A_L (CERPACK, 10-Leads, Body 6.9x6.3mm, Pitch 1.27mm, IPC High Density)
footprint WG10A_M (CERPACK, 10-Leads, Body 6.9x6.3mm, Pitch 1.27mm, IPC Low Density)
pins: 1 VA (power), 2 NC, 3 NC, 4 VOUT (out), 5 NC, 6 NC, 7 ~{SYNC} (in), 8 SCLK (in), 9 DIN (in), 10 GND (power)

## DAC122S085CIMM
designator U?
12-Bit Micro Power DUAL Digital-to-Analog Converter with Rail-to-Rail Output, 10-pin MSOP; PartNumber: DAC122S085CIMM; Manufacturer: National Semiconductor; PackageTopMarking: ZXTT*X72C; PowerWise: Y; CompType: D/A Converter; DatasheetVersion: Nov-2008; PackageVersion: revB, Jul-2003; PackageReference: MUB10A; PackageDescription: Mini-SO, Molded, .118 x .118 x .034in Body, 10 Lead, .0197in Pitch; RoHS: N; PinCount: 10; High-Reliability: Y; Code_JEDEC: MO-187-BA; ComponentLink1Description: Manufacturer URL; ComponentLink1URL: http://www.national.com/; ComponentLink2Description: DAC122S085 Datasheet; ComponentLink2URL: http://www.national.com/ds/DA/DAC122S085.pdf; ComponentLink3Description: DAC122S085 Web Page; ComponentLink3URL: http://www.national.com/pf/DA/DAC122S085.html; ComponentLink4Description: MUB10A Package Page; ComponentLink4URL: http://www.national.com/packaging/folders/mub10a.html
footprint MUB10A_N (TSSOP, 10-Leads, Body 3x3mm, Pitch 0.5mm, IPC Medium Density)
footprint MUB10A_L (TSSOP, 10-Leads, Body 3x3mm, Pitch 0.5mm, IPC High Density)
footprint MUB10A_M (TSSOP, 10-Leads, Body 3x3mm, Pitch 0.5mm, IPC Low Density)
pins: 1 VA (power), 2 VOUTA (out), 3 VOUTB (out), 4 NC, 5 NC, 6 GND (power), 7 VREFIN (power), 8 DIN (in), 9 ~{SYNC} (in), 10 SCLK (in)

## DAC122S085CIMM/NOPB
designator U?
12-Bit Micro Power DUAL Digital-to-Analog Converter with Rail-to-Rail Output, 10-pin Mini SOIC, Pb-Free; PartNumber: DAC122S085CIMM/NOPB; Manufacturer: National Semiconductor; PackageTopMarking: ZXTT*X72C; PowerWise: Y; CompType: D/A Converter; DatasheetVersion: Nov-2008; PackageVersion: revB, Jul-2003; PackageReference: MUB10A; PackageDescription: Mini-SO, Molded, .118 x .118 x .034in Body, 10 Lead, .0197in Pitch; RoHS: Y; PinCount: 10; High-Reliability: Y; Code_JEDEC: MO-187-BA; ComponentLink1Description: Manufacturer URL; ComponentLink1URL: http://www.national.com/; ComponentLink2Description: DAC122S085 Datasheet; ComponentLink2URL: http://www.national.com/ds/DA/DAC122S085.pdf; ComponentLink3Description: DAC122S085 Web Page; ComponentLink3URL: http://www.national.com/pf/DA/DAC122S085.html; ComponentLink4Description: MUB10A Package Page; ComponentLink4URL: http://www.national.com/packaging/folders/mub10a.html
footprint MUB10A_N (TSSOP, 10-Leads, Body 3x3mm, Pitch 0.5mm, IPC Medium Density)
footprint MUB10A_L (TSSOP, 10-Leads, Body 3x3mm, Pitch 0.5mm, IPC High Density)
footprint MUB10A_M (TSSOP, 10-Leads, Body 3x3mm, Pitch 0.5mm, IPC Low Density)
pins: 1 VA (power), 2 VOUTA (out), 3 VOUTB (out), 4 NC, 5 NC, 6 GND (power), 7 VREFIN (power), 8 DIN (in), 9 ~{SYNC} (in), 10 SCLK (in)

## DAC122S085CIMMX
designator U?
12-Bit Micro Power DUAL Digital-to-Analog Converter with Rail-to-Rail Output, 10-pin Mini SOIC; PartNumber: DAC122S085CIMMX; Manufacturer: National Semiconductor; PackageTopMarking: ZXTT*X72C; PowerWise: Y; CompType: D/A Converter; DatasheetVersion: Nov-2008; PackageVersion: revB, Jul-2003; PackageReference: MUB10A; PackageDescription: Mini-SO, Molded, .118 x .118 x .034in Body, 10 Lead, .0197in Pitch; RoHS: N; PinCount: 10; High-Reliability: Y; Code_JEDEC: MO-187-BA; ComponentLink1Description: Manufacturer URL; ComponentLink1URL: http://www.national.com/; ComponentLink2Description: DAC122S085 Datasheet; ComponentLink2URL: http://www.national.com/ds/DA/DAC122S085.pdf; ComponentLink3Description: DAC122S085 Web Page; ComponentLink3URL: http://www.national.com/pf/DA/DAC122S085.html; ComponentLink4Description: MUB10A Package Page; ComponentLink4URL: http://www.national.com/packaging/folders/mub10a.html
footprint MUB10A_N (TSSOP, 10-Leads, Body 3x3mm, Pitch 0.5mm, IPC Medium Density)
footprint MUB10A_L (TSSOP, 10-Leads, Body 3x3mm, Pitch 0.5mm, IPC High Density)
footprint MUB10A_M (TSSOP, 10-Leads, Body 3x3mm, Pitch 0.5mm, IPC Low Density)
pins: 1 VA (power), 2 VOUTA (out), 3 VOUTB (out), 4 NC, 5 NC, 6 GND (power), 7 VREFIN (power), 8 DIN (in), 9 ~{SYNC} (in), 10 SCLK (in)

## DAC122S085CISD
designator U?
12-Bit Micro Power DUAL Digital-to-Analog Converter with Rail-to-Rail Output, 11-pin LLP; PartNumber: DAC122S085CISD; Manufacturer: National Semiconductor; PackageTopMarking: ZXYTT*X73C; PowerWise: Y; CompType: D/A Converter; DatasheetVersion: Nov-2008; PackageVersion: revA, Oct-2003; PackageReference: SDA10A; PackageDescription: LLP, Plastic, Dual, 3 x 3 x 0.8mm Body, 10 Lead, 0.5mm Pitch, No Pullback; RoHS: N; PinCount: 11; High-Reliability: Y; ComponentLink1Description: Manufacturer URL; ComponentLink1URL: http://www.national.com/; ComponentLink2Description: DAC122S085 Datasheet; ComponentLink2URL: http://www.national.com/ds/DA/DAC122S085.pdf; ComponentLink3Description: DAC122S085 Web Page; ComponentLink3URL: http://www.national.com/pf/DA/DAC122S085.html; ComponentLink4Description: SDA10A Package Page; ComponentLink4URL: http://www.national.com/packaging/folders/sda10a.html
footprint SDA10A (SON, 10-Leads, Body 3x3 mm, Pitch 0.5mm, NSC Recommended)
pins: 1 VA (power), 2 VOUTA (out), 3 VOUTB (out), 4 NC, 5 NC, 6 GND (power), 7 VREFIN (power), 8 DIN (in), 9 ~{SYNC} (in), 10 SCLK (in), 11 DAP (power)

## DAC122S085CISD/NOPB
designator U?
12-Bit Micro Power DUAL Digital-to-Analog Converter with Rail-to-Rail Output, 10-pin LLP, Pb-Free; PartNumber: DAC122S085CISD/NOPB; Manufacturer: National Semiconductor; PackageTopMarking: ZXYTT*X73C; PowerWise: Y; CompType: D/A Converter; DatasheetVersion: Nov-2008; PackageVersion: revA, Oct-2003; PackageReference: SDA10A; PackageDescription: LLP, Plastic, Dual, 3 x 3 x 0.8mm Body, 10 Lead, 0.5mm Pitch, No Pullback; RoHS: Y; PinCount: 10; High-Reliability: Y; ComponentLink1Description: Manufacturer URL; ComponentLink1URL: http://www.national.com/; ComponentLink2Description: DAC122S085 Datasheet; ComponentLink2URL: http://www.national.com/ds/DA/DAC122S085.pdf; ComponentLink3Description: DAC122S085 Web Page; ComponentLink3URL: http://www.national.com/pf/DA/DAC122S085.html; ComponentLink4Description: SDA10A Package Page; ComponentLink4URL: http://www.national.com/packaging/folders/sda10a.html
footprint SDA10A (SON, 10-Leads, Body 3x3 mm, Pitch 0.5mm, NSC Recommended)
pins: 1 VA (power), 2 VOUTA (out), 3 VOUTB (out), 4 NC, 5 NC, 6 GND (power), 7 VREFIN (power), 8 DIN (in), 9 ~{SYNC} (in), 10 SCLK (in), 11 DAP (power)

## DAC122S085CISDX
designator U?
12-Bit Micro Power DUAL Digital-to-Analog Converter with Rail-to-Rail Output, 10-pin LLP; PartNumber: DAC122S085CISDX; Manufacturer: National Semiconductor; PackageTopMarking: ZXYTT*X73C; PowerWise: Y; CompType: D/A Converter; DatasheetVersion: Nov-2008; PackageVersion: revA, Oct-2003; PackageReference: SDA10A; PackageDescription: LLP, Plastic, Dual, 3 x 3 x 0.8mm Body, 10 Lead, 0.5mm Pitch, No Pullback; RoHS: N; PinCount: 10; High-Reliability: Y; ComponentLink1Description: Manufacturer URL; ComponentLink1URL: http://www.national.com/; ComponentLink2Description: DAC122S085 Datasheet; ComponentLink2URL: http://www.national.com/ds/DA/DAC122S085.pdf; ComponentLink3Description: DAC122S085 Web Page; ComponentLink3URL: http://www.national.com/pf/DA/DAC122S085.html; ComponentLink4Description: SDA10A Package Page; ComponentLink4URL: http://www.national.com/packaging/folders/sda10a.html
footprint SDA10A (SON, 10-Leads, Body 3x3 mm, Pitch 0.5mm, NSC Recommended)
pins: 1 VA (power), 2 VOUTA (out), 3 VOUTB (out), 4 NC, 5 NC, 6 GND (power), 7 VREFIN (power), 8 DIN (in), 9 ~{SYNC} (in), 10 SCLK (in), 11 DAP (power)

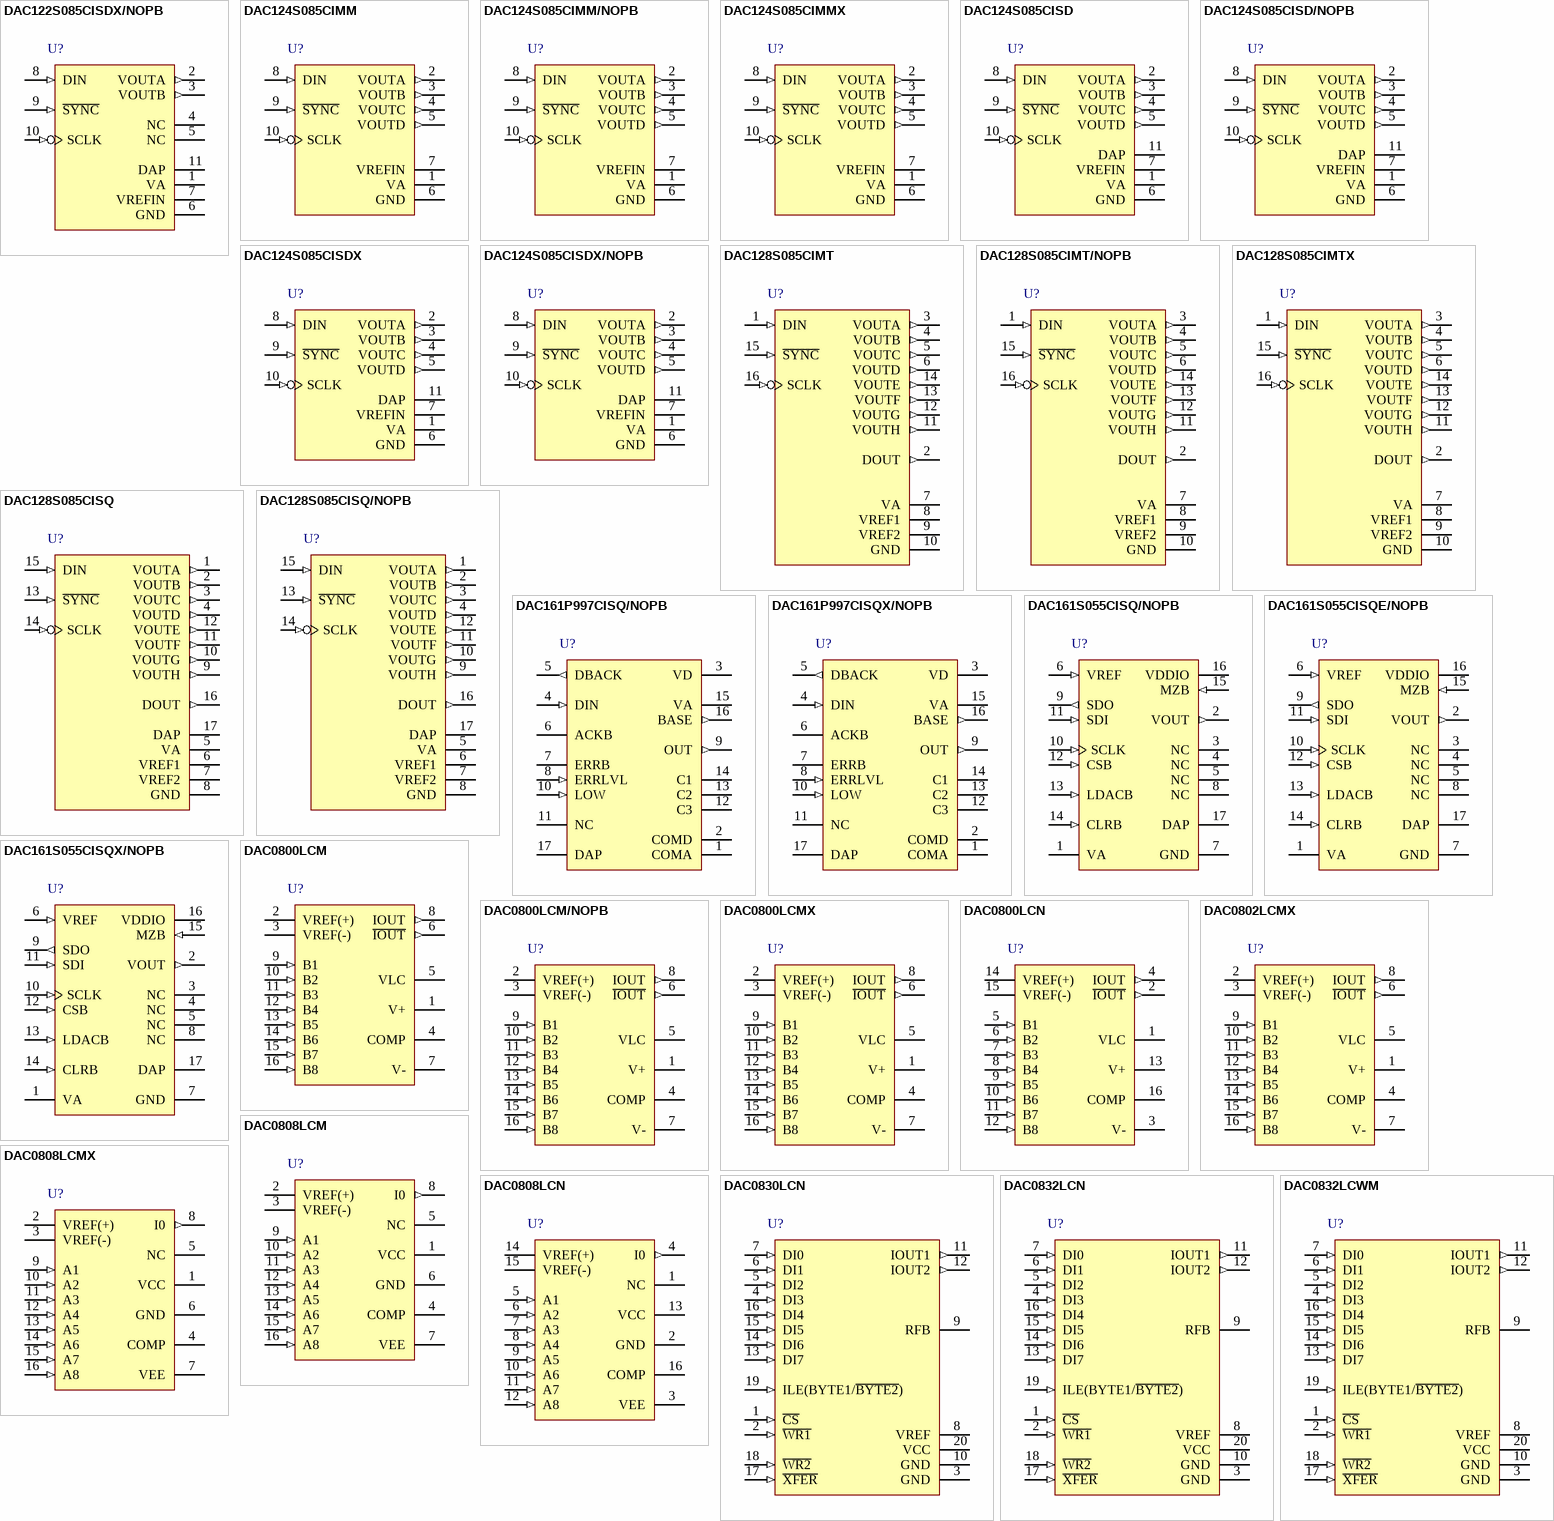
[diagram p3: symbols DAC122S085CISDX/NOPB to DAC0832LCWM]

## DAC122S085CISDX/NOPB
designator U?
12-Bit Micro Power DUAL Digital-to-Analog Converter with Rail-to-Rail Output, 10-pin LLP, Pb-Free; PartNumber: DAC122S085CISDX/NOPB; Manufacturer: National Semiconductor; PackageTopMarking: ZXYTT*X73C; PowerWise: Y; CompType: D/A Converter; DatasheetVersion: Nov-2008; PackageVersion: revA, Oct-2003; PackageReference: SDA10A; PackageDescription: LLP, Plastic, Dual, 3 x 3 x 0.8mm Body, 10 Lead, 0.5mm Pitch, No Pullback; RoHS: Y; PinCount: 10; High-Reliability: Y; ComponentLink1Description: Manufacturer URL; ComponentLink1URL: http://www.national.com/; ComponentLink2Description: DAC122S085 Datasheet; ComponentLink2URL: http://www.national.com/ds/DA/DAC122S085.pdf; ComponentLink3Description: DAC122S085 Web Page; ComponentLink3URL: http://www.national.com/pf/DA/DAC122S085.html; ComponentLink4Description: SDA10A Package Page; ComponentLink4URL: http://www.national.com/packaging/folders/sda10a.html
footprint SDA10A (SON, 10-Leads, Body 3x3 mm, Pitch 0.5mm, NSC Recommended)
pins: 1 VA (power), 2 VOUTA (out), 3 VOUTB (out), 4 NC, 5 NC, 6 GND (power), 7 VREFIN (power), 8 DIN (in), 9 ~{SYNC} (in), 10 SCLK (in), 11 DAP (power)

## DAC124S085CIMM
designator U?
12-Bit Micro Power QUAD Digital-to-Analog Converter with Rail-to-Rail Output, 10-pin MSOP; PartNumber: DAC124S085CIMM; Manufacturer: National Semiconductor; PackageTopMarking: ZXTT*X66C; PowerWise: Y; CompType: D/A Converter; DatasheetVersion: Nov-2008; PackageVersion: revB, Jul-2003; PackageReference: MUB10A; PackageDescription: Mini-SO, Molded, .118 x .118 x .034in Body, 10 Lead, .0197in Pitch; RoHS: N; PinCount: 10; High-Reliability: Y; Code_JEDEC: MO-187-BA; ComponentLink1Description: Manufacturer URL; ComponentLink1URL: http://www.national.com/; ComponentLink2Description: DAC124S085 Datasheet; ComponentLink2URL: http://www.national.com/ds/DA/DAC124S085.pdf; ComponentLink3Description: DAC124S085 Web Page; ComponentLink3URL: http://www.national.com/pf/DA/DAC124S085.html; ComponentLink4Description: MUB10A Package Page; ComponentLink4URL: http://www.national.com/packaging/folders/mub10a.html
footprint MUB10A_N (TSSOP, 10-Leads, Body 3x3mm, Pitch 0.5mm, IPC Medium Density)
footprint MUB10A_L (TSSOP, 10-Leads, Body 3x3mm, Pitch 0.5mm, IPC High Density)
footprint MUB10A_M (TSSOP, 10-Leads, Body 3x3mm, Pitch 0.5mm, IPC Low Density)
pins: 1 VA (power), 2 VOUTA (out), 3 VOUTB (out), 4 VOUTC (out), 5 VOUTD (out), 6 GND (power), 7 VREFIN (power), 8 DIN (in), 9 ~{SYNC} (in), 10 SCLK (in)

## DAC124S085CIMM/NOPB
designator U?
12-Bit Micro Power QUAD Digital-to-Analog Converter with Rail-to-Rail Output, 10-pin Mini SOIC, Pb-Free; PartNumber: DAC124S085CIMM/NOPB; Manufacturer: National Semiconductor; PackageTopMarking: ZXTT*X66C; PowerWise: Y; CompType: D/A Converter; DatasheetVersion: Nov-2008; PackageVersion: revB, Jul-2003; PackageReference: MUB10A; PackageDescription: Mini-SO, Molded, .118 x .118 x .034in Body, 10 Lead, .0197in Pitch; RoHS: Y; PinCount: 10; High-Reliability: Y; Code_JEDEC: MO-187-BA; ComponentLink1Description: Manufacturer URL; ComponentLink1URL: http://www.national.com/; ComponentLink2Description: DAC124S085 Datasheet; ComponentLink2URL: http://www.national.com/ds/DA/DAC124S085.pdf; ComponentLink3Description: DAC124S085 Web Page; ComponentLink3URL: http://www.national.com/pf/DA/DAC124S085.html; ComponentLink4Description: MUB10A Package Page; ComponentLink4URL: http://www.national.com/packaging/folders/mub10a.html
footprint MUB10A_N (TSSOP, 10-Leads, Body 3x3mm, Pitch 0.5mm, IPC Medium Density)
footprint MUB10A_L (TSSOP, 10-Leads, Body 3x3mm, Pitch 0.5mm, IPC High Density)
footprint MUB10A_M (TSSOP, 10-Leads, Body 3x3mm, Pitch 0.5mm, IPC Low Density)
pins: 1 VA (power), 2 VOUTA (out), 3 VOUTB (out), 4 VOUTC (out), 5 VOUTD (out), 6 GND (power), 7 VREFIN (power), 8 DIN (in), 9 ~{SYNC} (in), 10 SCLK (in)